# Altium integrated library NE5532P.IntLib: 1 symbol
Pins are listed as number, name and electrical type; pins without a type are passive.

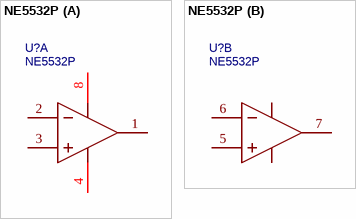
[diagram p0: symbol NE5532P]

## NE5532P
designator U?
BOM_Manufacturer: TI; subpart_no: 2; tags: Audio Operational Amplifier; timeStamp: 1460221582; BOM_Supplier Part: C5326; BOM_Supplier: LCSC; BOM_Manufacturer Part: NE5532P; image: http://image.lceda.cn/szlcsc/C5326.jpg; spicePre: U; spiceSymbolName: NE5532P
footprint DIP-8_L9.4-W6.4-P2.54-LS9.1-BL
part A pins: 1 OUT1, 2 IN1-, 3 IN1+, 4 VCC-, 8 VCC+
part B pins: 5 IN2+, 6 IN2-, 7 OUT2